# EAGLE library part PSOC5LP-DEVBRD (library modules)
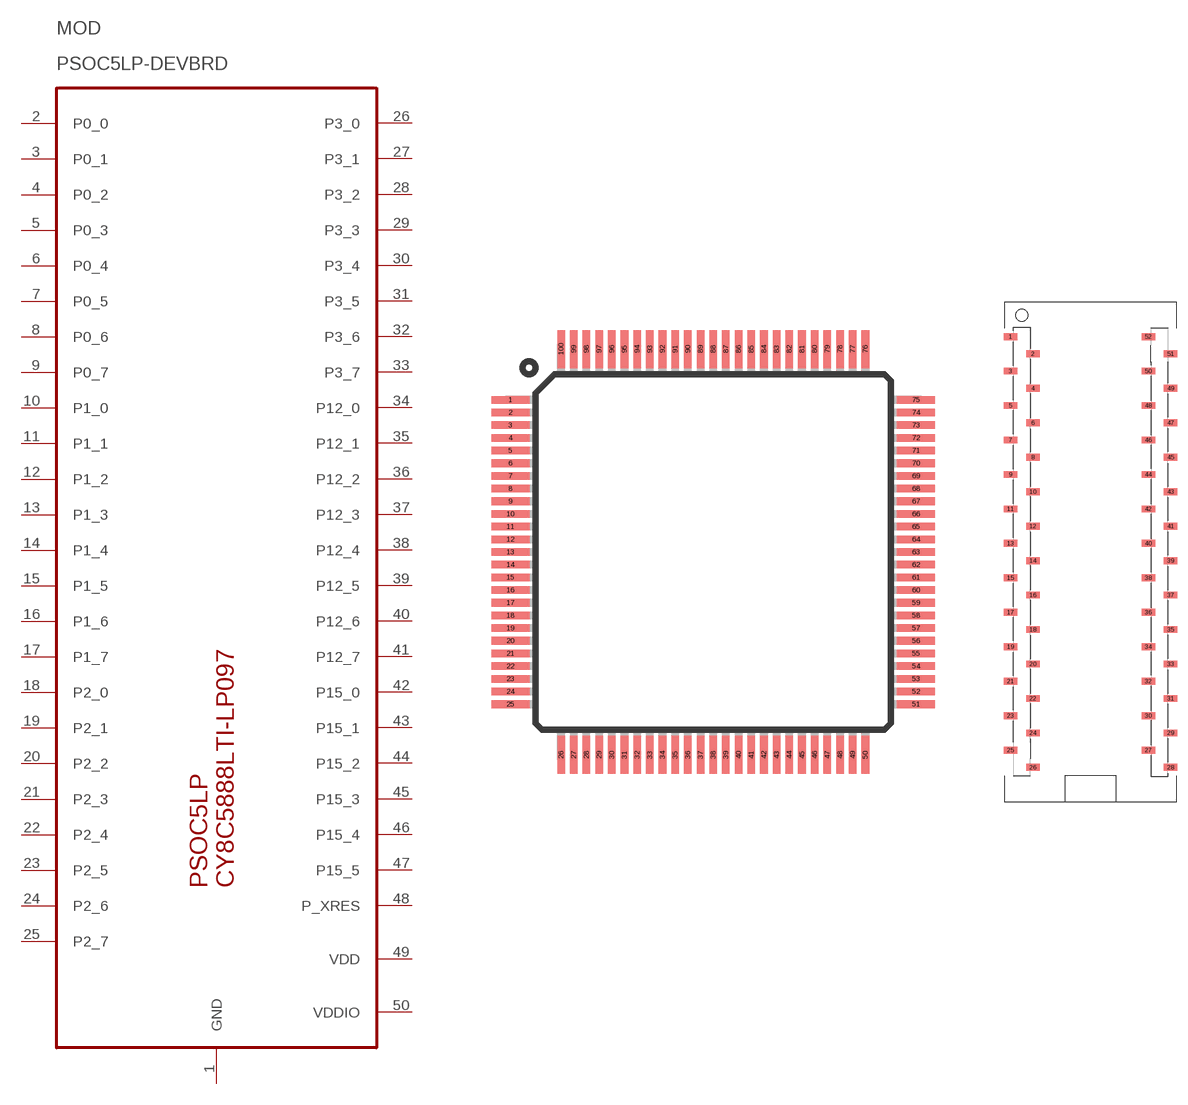
[diagram p0: symbol with the pads of TQFP100; footprints TQFP100, CYKIT059]

Designator prefix MOD

## PSOC5LP-DEVBRD  [TQFP100]
1  GND  pwr
2  P0_0
3  P0_1
4  P0_2
5  P0_3
6  P0_4
7  P0_5
8  P0_6
9  P0_7
10  P1_0
11  P1_1
12  P1_2
13  P1_3
14  P1_4
15  P1_5
16  P1_6
17  P1_7
18  P2_0
19  P2_1
20  P2_2
21  P2_3
22  P2_4
23  P2_5
24  P2_6
25  P2_7
26  P3_0
27  P3_1
28  P3_2
29  P3_3
30  P3_4
31  P3_5
32  P3_6
33  P3_7
34  P12_0
35  P12_1
36  P12_2
37  P12_3
38  P12_4
39  P12_5
40  P12_6
41  P12_7
42  P15_0
43  P15_1
44  P15_2
45  P15_3
46  P15_4
47  P15_5
48  P_XRES
49  VDD  pwr
50  VDDIO  pwr

## PSOC5LP-DEVBRDCY8CKIT-059  [CYKIT059]
1  GND  pwr
2  P3_0
3  P3_1
4  P3_2
5  P3_3
6  P3_4
7  P3_5
8  P3_6
9  P3_7
10  P15_0
11  P15_1
12  P15_2
13  P15_3
14  P15_4
15  P15_5
16  P0_0
17  P0_1
18  P0_2
19  P0_3
20  P0_4
21  P0_5
22  P0_6
23  P0_7
24  P_XRES
25  GND  pwr
26  VDD  pwr
27  P2_0
28  P2_1
29  P2_2
30  P2_3
31  P2_4
32  P2_5
33  P2_6
34  P2_7
35  P12_7
36  P12_6
37  P12_5
38  P12_4
39  P12_3
40  P12_2
41  P12_1
42  P12_0
43  P1_0
44  P1_1
45  P1_2
46  P1_3
47  P1_4
48  P1_5
49  P1_6
50  P1_7
51  GND  pwr
52  VDDIO  pwr

## Footprint TQFP100 (pad centres in mm)
100-lead Thin Quad Flat Pack Package Outline
smd 1.5 x 0.3: 1 -8,6; 2 -8,5.5; 3 -8,5; 4 -8,4.5; 5 -8,4; 6 -8,3.5; 7 -8,3; 8 -8,2.5; 9 -8,2; 10 -8,1.5; 11 -8,1; 12 -8,0.5; 13 -8,0; 14 -8,-0.5; 15 -8,-1; 16 -8,-1.5; 17 -8,-2; 18 -8,-2.5; 19 -8,-3; 20 -8,-3.5; 21 -8,-4; 22 -8,-4.5; 23 -8,-5; 24 -8,-5.5; 25 -8,-6; 51 8,-6; 52 8,-5.5; 53 8,-5; 54 8,-4.5; 55 8,-4; 56 8,-3.5; 57 8,-3; 58 8,-2.5; 59 8,-2; 60 8,-1.5; 61 8,-1; 62 8,-0.5; 63 8,0; 64 8,0.5; 65 8,1; 66 8,1.5; 67 8,2; 68 8,2.5; 69 8,3; 70 8,3.5; 71 8,4; 72 8,4.5; 73 8,5; 74 8,5.5; 75 8,6
smd 0.3 x 1.5: 26 -6,-8; 27 -5.5,-8; 28 -5,-8; 29 -4.5,-8; 30 -4,-8; 31 -3.5,-8; 32 -3,-8; 33 -2.5,-8; 34 -2,-8; 35 -1.5,-8; 36 -1,-8; 37 -0.5,-8; 38 0,-8; 39 0.5,-8; 40 1,-8; 41 1.5,-8; 42 2,-8; 43 2.5,-8; 44 3,-8; 45 3.5,-8; 46 4,-8; 47 4.5,-8; 48 5,-8; 49 5.5,-8; 50 6,-8; 76 6,8; 77 5.5,8; 78 5,8; 79 4.5,8; 80 4,8; 81 3.5,8; 82 3,8; 83 2.5,8; 84 2,8; 85 1.5,8; 86 1,8; 87 0.5,8; 88 0,8; 89 -0.5,8; 90 -1,8; 91 -1.5,8; 92 -2,8; 93 -2.5,8; 94 -3,8; 95 -3.5,8; 96 -4,8; 97 -4.5,8; 98 -5,8; 99 -5.5,8; 100 -6,8

## Footprint CYKIT059 (pad centres in mm)
smd 2 x 1: 1 -1.65,0; 2 1.65,-2.54; 3 -1.65,-5.08; 4 1.65,-7.62; 5 -1.65,-10.16; 6 1.65,-12.7; 7 -1.65,-15.24; 8 1.65,-17.78; 9 -1.65,-20.32; 10 1.65,-22.86; 11 -1.65,-25.4; 12 1.65,-27.94; 13 -1.65,-30.48; 14 1.65,-33.02; 15 -1.65,-35.56; 16 1.65,-38.1; 17 -1.65,-40.64; 18 1.65,-43.18; 19 -1.65,-45.72; 20 1.65,-48.26; 21 -1.65,-50.8; 22 1.65,-53.34; 23 -1.65,-55.88; 24 1.65,-58.42; 25 -1.65,-60.96; 26 1.65,-63.5; 27 18.67,-60.96; 28 21.97,-63.5; 29 21.97,-58.42; 30 18.67,-55.88; 31 21.97,-53.34; 32 18.67,-50.8; 33 21.97,-48.26; 34 18.67,-45.72; 35 21.97,-43.18; 36 18.67,-40.64; 37 21.97,-38.1; 38 18.67,-35.56; 39 21.97,-33.02; 40 18.67,-30.48; 41 21.97,-27.94; 42 18.67,-25.4; 43 21.97,-22.86; 44 18.67,-20.32; 45 21.97,-17.78; 46 18.67,-15.24; 47 21.97,-12.7; 48 18.67,-10.16; 49 21.97,-7.62; 50 18.67,-5.08; 51 21.97,-2.54; 52 18.67,0